# Altium schematic symbol library ReviewedComponents_20260912-234508.SchLib: 61 symbols (part 2 of 2)
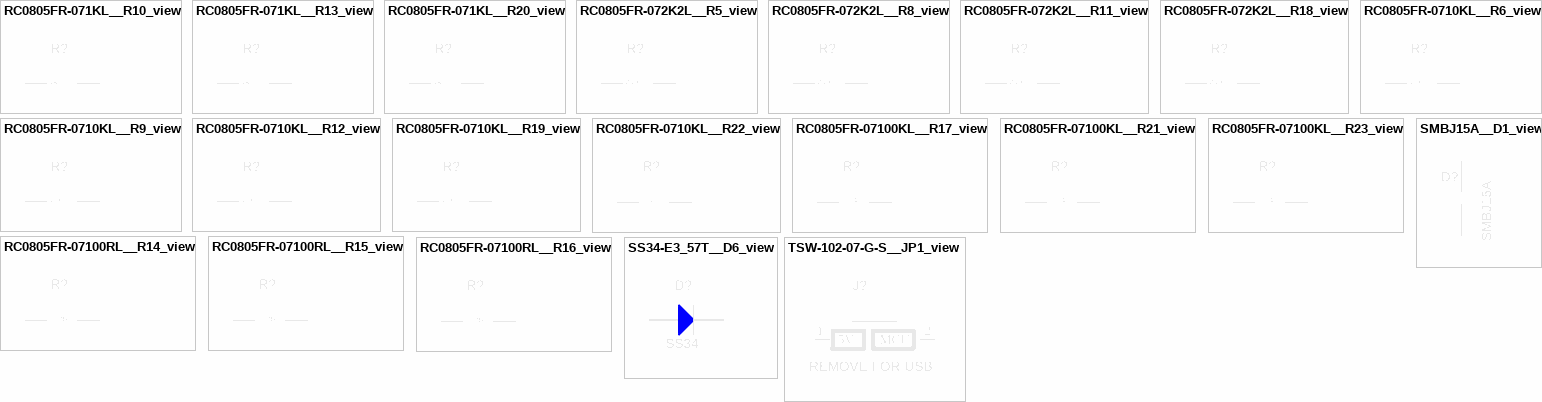
[diagram p2: symbols RC0805FR-071KL__R10_view to TSW-102-07-G-S__JP1_view]

## RC0805FR-0710KL__R12_view
designator R?, comment 10k
Pull-up earns unsafe if optocoupler is off; Part number: RC0805FR-0710KL; Manufacturer: Yageo; Symbol source: Celestial / Mark Harris / SCH - PASSIVES - RESISTOR.SCHLIB / Resistor; Intended footprint: YAGEO RES 0805_2012; CAD status: Reusable reviewed symbol; pin/pad check performed by refresh. Native ERC, PCB ECO and 3D mechanical inspection still required.; Component refresh: 2026-09-10 sourced-symbol pass; not manufacturing release; Symbol adaptation: Import genuine Celestial symbol artwork; retain exact purchasing identity, physical pin identities and footprint mapping.; Valor: 10k; Manufacturer Part Number: RC0805FR-0710KL; Footprint source: Celestial Altium Library / Mark Harris / https://altiumlibrary.com; Value: 10k
footprint YAGEO RES 0805_2012
pins: 1, 2

## RC0805FR-0710KL__R19_view
designator R?, comment 10k
Pull-up earns unsafe if optocoupler is off; Part number: RC0805FR-0710KL; Manufacturer: Yageo; Symbol source: Celestial / Mark Harris / SCH - PASSIVES - RESISTOR.SCHLIB / Resistor; Intended footprint: YAGEO RES 0805_2012; CAD status: Reusable reviewed symbol; pin/pad check performed by refresh. Native ERC, PCB ECO and 3D mechanical inspection still required.; Component refresh: 2026-09-10 sourced-symbol pass; not manufacturing release; Symbol adaptation: Import genuine Celestial symbol artwork; retain exact purchasing identity, physical pin identities and footprint mapping.; Valor: 10k; Manufacturer Part Number: RC0805FR-0710KL; Footprint source: Celestial Altium Library / Mark Harris / https://altiumlibrary.com; Value: 10k
footprint YAGEO RES 0805_2012
pins: 1, 2

## RC0805FR-0710KL__R22_view
designator R?, comment 10k
Test button external pull-up; Part number: RC0805FR-0710KL; Manufacturer: Yageo; Symbol source: Celestial / Mark Harris / SCH - PASSIVES - RESISTOR.SCHLIB / Resistor; Intended footprint: YAGEO RES 0805_2012; CAD status: Reusable reviewed symbol; pin/pad check performed by refresh. Native ERC, PCB ECO and 3D mechanical inspection still required.; Component refresh: 2026-09-10 sourced-symbol pass; not manufacturing release; Symbol adaptation: Import genuine Celestial symbol artwork; retain exact purchasing identity, physical pin identities and footprint mapping.; Valor: 10k; Manufacturer Part Number: RC0805FR-0710KL; Footprint source: Celestial Altium Library / Mark Harris / https://altiumlibrary.com; Value: 10k
footprint YAGEO RES 0805_2012
pins: 1, 2

## RC0805FR-07100KL__R17_view
designator R?, comment 100k
Gate-source pull-down; off while ESP32 resets; Part number: RC0805FR-07100KL; Manufacturer: Yageo; Symbol source: Celestial / Mark Harris / SCH - PASSIVES - RESISTOR.SCHLIB / Resistor; Intended footprint: YAGEO RES 0805_2012; CAD status: Reusable reviewed symbol; pin/pad check performed by refresh. Native ERC, PCB ECO and 3D mechanical inspection still required.; Component refresh: 2026-09-10 sourced-symbol pass; not manufacturing release; Symbol adaptation: Import genuine Celestial symbol artwork; retain exact purchasing identity, physical pin identities and footprint mapping.; Valor: 100k; Manufacturer Part Number: RC0805FR-07100KL; Footprint source: Celestial Altium Library / Mark Harris / https://altiumlibrary.com; Value: 100k
footprint YAGEO RES 0805_2012
pins: 1, 2

## RC0805FR-07100KL__R21_view
designator R?, comment 100k
Gate-source pull-down; off while ESP32 resets; Part number: RC0805FR-07100KL; Manufacturer: Yageo; Symbol source: Celestial / Mark Harris / SCH - PASSIVES - RESISTOR.SCHLIB / Resistor; Intended footprint: YAGEO RES 0805_2012; CAD status: Reusable reviewed symbol; pin/pad check performed by refresh. Native ERC, PCB ECO and 3D mechanical inspection still required.; Component refresh: 2026-09-10 sourced-symbol pass; not manufacturing release; Symbol adaptation: Import genuine Celestial symbol artwork; retain exact purchasing identity, physical pin identities and footprint mapping.; Valor: 100k; Manufacturer Part Number: RC0805FR-07100KL; Footprint source: Celestial Altium Library / Mark Harris / https://altiumlibrary.com; Value: 100k
footprint YAGEO RES 0805_2012
pins: 1, 2

## RC0805FR-07100KL__R23_view
designator R?, comment 100k
Gate-source pull-down; off while ESP32 resets; Part number: RC0805FR-07100KL; Manufacturer: Yageo; Symbol source: Celestial / Mark Harris / SCH - PASSIVES - RESISTOR.SCHLIB / Resistor; Intended footprint: YAGEO RES 0805_2012; CAD status: Reusable reviewed symbol; pin/pad check performed by refresh. Native ERC, PCB ECO and 3D mechanical inspection still required.; Component refresh: 2026-09-10 sourced-symbol pass; not manufacturing release; Symbol adaptation: Import genuine Celestial symbol artwork; retain exact purchasing identity, physical pin identities and footprint mapping.; Valor: 100k; Manufacturer Part Number: RC0805FR-07100KL; Footprint source: Celestial Altium Library / Mark Harris / https://altiumlibrary.com; Value: 100k
footprint YAGEO RES 0805_2012
pins: 1, 2

## RC0805FR-07100RL__R14_view
designator R?, comment 100R
MOSFET gate series resistor; Part number: RC0805FR-07100RL; Manufacturer: Yageo; Symbol source: Celestial / Mark Harris / SCH - PASSIVES - RESISTOR.SCHLIB / Resistor; Intended footprint: YAGEO RES 0805_2012; CAD status: Reusable reviewed symbol; pin/pad check performed by refresh. Native ERC, PCB ECO and 3D mechanical inspection still required.; Component refresh: 2026-09-10 sourced-symbol pass; not manufacturing release; Symbol adaptation: Import genuine Celestial symbol artwork; retain exact purchasing identity, physical pin identities and footprint mapping.; Valor: 100R; Manufacturer Part Number: RC0805FR-07100RL; Footprint source: Celestial Altium Library / Mark Harris / https://altiumlibrary.com; Value: 100R
footprint YAGEO RES 0805_2012
pins: 1, 2

## RC0805FR-07100RL__R15_view
designator R?, comment 100R
MOSFET gate series resistor; Part number: RC0805FR-07100RL; Manufacturer: Yageo; Symbol source: Celestial / Mark Harris / SCH - PASSIVES - RESISTOR.SCHLIB / Resistor; Intended footprint: YAGEO RES 0805_2012; CAD status: Reusable reviewed symbol; pin/pad check performed by refresh. Native ERC, PCB ECO and 3D mechanical inspection still required.; Component refresh: 2026-09-10 sourced-symbol pass; not manufacturing release; Symbol adaptation: Import genuine Celestial symbol artwork; retain exact purchasing identity, physical pin identities and footprint mapping.; Valor: 100R; Manufacturer Part Number: RC0805FR-07100RL; Footprint source: Celestial Altium Library / Mark Harris / https://altiumlibrary.com; Value: 100R
footprint YAGEO RES 0805_2012
pins: 1, 2

## RC0805FR-07100RL__R16_view
designator R?, comment 100R
MOSFET gate series resistor; Part number: RC0805FR-07100RL; Manufacturer: Yageo; Symbol source: Celestial / Mark Harris / SCH - PASSIVES - RESISTOR.SCHLIB / Resistor; Intended footprint: YAGEO RES 0805_2012; CAD status: Reusable reviewed symbol; pin/pad check performed by refresh. Native ERC, PCB ECO and 3D mechanical inspection still required.; Component refresh: 2026-09-10 sourced-symbol pass; not manufacturing release; Symbol adaptation: Import genuine Celestial symbol artwork; retain exact purchasing identity, physical pin identities and footprint mapping.; Valor: 100R; Manufacturer Part Number: RC0805FR-07100RL; Footprint source: Celestial Altium Library / Mark Harris / https://altiumlibrary.com; Value: 100R
footprint YAGEO RES 0805_2012
pins: 1, 2

## SMBJ15A__D1_view
designator D?, comment SMBJ15A
15 V TVS suppressor - cathode to positive rail; Manufacturer: Littelfuse; Symbol source: Celestial / Mark Harris / SCH - DIODES - DIODE TVS UNI.SCHLIB / DIODE TVS UNI; Intended footprint: SMBJ15A_A1_K2; CAD status: Reusable reviewed symbol; pin/pad check performed by refresh. Native ERC, PCB ECO and 3D mechanical inspection still required.; Component refresh: 2026-09-10 sourced-symbol pass; not manufacturing release; Symbol adaptation: Import genuine Celestial symbol artwork; retain exact purchasing identity, physical pin identities and footprint mapping.; Value: SMBJ15A; Part Number: SMBJ15A; Manufacturer Part Number: SMBJ15A; Footprint source: Local PinRepairFootprints.PcbLib; source and polarity checked
footprint SMBJ15A_A1_K2
pins: 1 A, 2 K

## SS34-E3_57T__D6_view
designator D?, comment SS34
Series reverse-polarity Schottky diode; Manufacturer: Vishay; Value: SS34-E3/57T; Symbol source: Conventional symbol reused from ENERGY.SchDoc; Intended footprint: SS34_A1_K2; CAD status: Reusable reviewed symbol; pin/pad check performed by refresh. Native ERC, PCB ECO and 3D mechanical inspection still required.; Component refresh: 2026-09-10 sourced-symbol pass; not manufacturing release; Symbol adaptation: Retain existing diode symbol for SS34; dedicated Schottky glyph remains a follow-up (not silently replaced with TVS/rectifier artwork).; Part Number: SS34-E3/57T; Manufacturer Part Number: SS34-E3/57T; Footprint source: Local PinRepairFootprints.PcbLib; source and polarity checked
footprint SS34_A1_K2
pins: 1 A, 2 K

## TSW-102-07-G-S__JP1_view
designator J?, comment REMOVE FOR USB
External 5 V disconnect; fit shunt only without USB; Manufacturer: Samtec; Manufacturer Part Number: TSW-102-07-G-S; Populate: Yes; Intended footprint: SAMTEC_TSW102_07_SINGLE; CAD status: Reusable reviewed symbol; pin/pad check performed by refresh. Native ERC, PCB ECO and 3D mechanical inspection still required.; Value: TSW-102-07-G-S; Component refresh: 2026-09-10 sourced-symbol pass; not manufacturing release; Symbol adaptation: Keep existing part-specific symbol; package and procurement metadata retained.; Package: HEADER_1X02_2.54; Footprint source: Local PinRepairFootprints.PcbLib; source and polarity checked; Part Number: TSW-102-07-G-S
footprint SAMTEC_TSW102_07_SINGLE
pins: 1 5V, 2 MCU